# EAGLE library part ATMEGA640 (library X893)
ATmega640
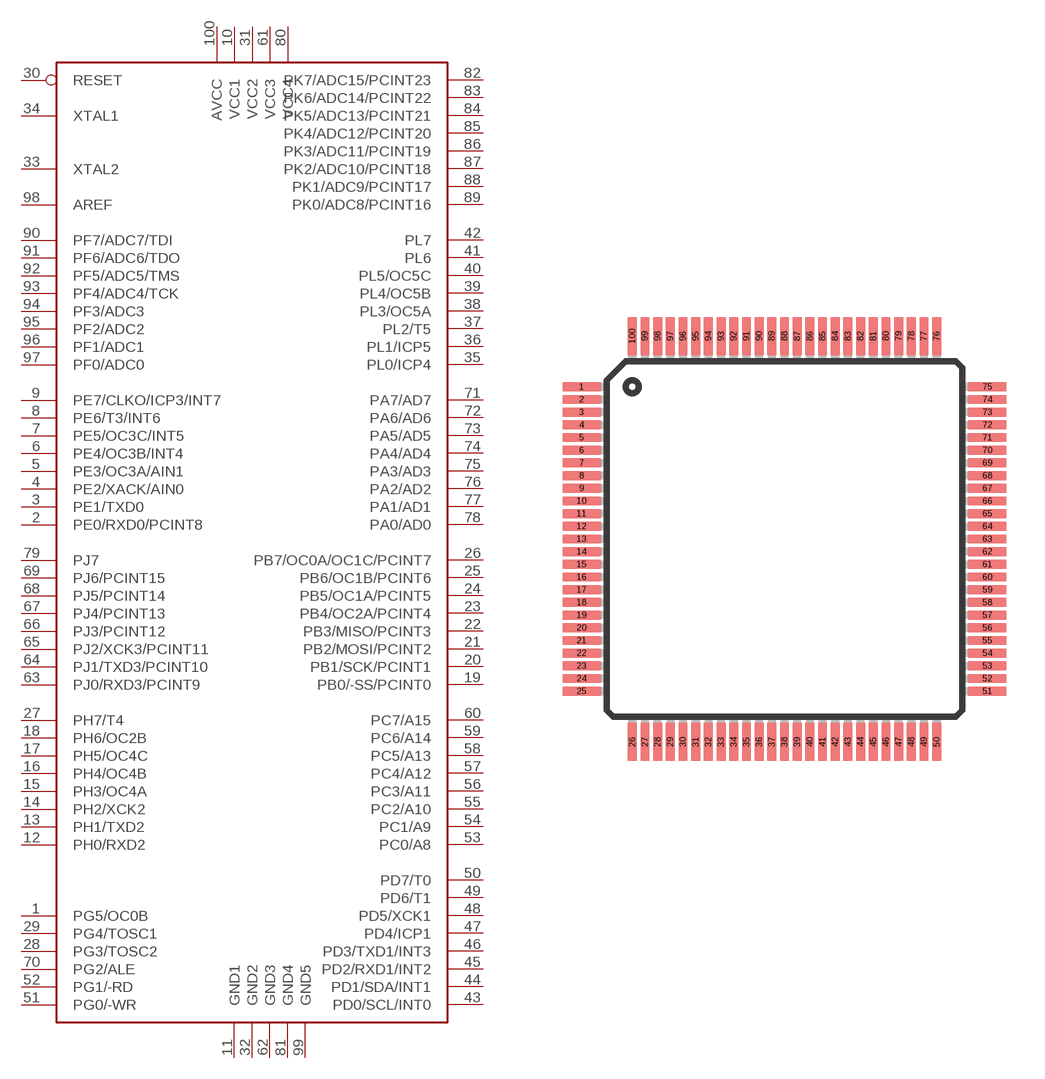
[diagram p3: symbol with the pads of TQFP100; footprint TQFP100]

Designator prefix -

## ATMEGA640  [TQFP100]
1  PG5/OC0B
2  PE0/RXD0/PCINT8
3  PE1/TXD0
4  PE2/XACK/AIN0
5  PE3/OC3A/AIN1
6  PE4/OC3B/INT4
7  PE5/OC3C/INT5
8  PE6/T3/INT6
9  PE7/CLKO/ICP3/INT7
10  VCC1  pwr
11  GND1  pwr
12  PH0/RXD2
13  PH1/TXD2
14  PH2/XCK2
15  PH3/OC4A
16  PH4/OC4B
17  PH5/OC4C
18  PH6/OC2B
19  PB0/-SS/PCINT0
20  PB1/SCK/PCINT1
21  PB2/MOSI/PCINT2
22  PB3/MISO/PCINT3
23  PB4/OC2A/PCINT4
24  PB5/OC1A/PCINT5
25  PB6/OC1B/PCINT6
26  PB7/OC0A/OC1C/PCINT7
27  PH7/T4
28  PG3/TOSC2
29  PG4/TOSC1
30  RESET  in
31  VCC2  pwr
32  GND2  pwr
33  XTAL2
34  XTAL1
35  PL0/ICP4
36  PL1/ICP5
37  PL2/T5
38  PL3/OC5A
39  PL4/OC5B
40  PL5/OC5C
41  PL6
42  PL7
43  PD0/SCL/INT0
44  PD1/SDA/INT1
45  PD2/RXD1/INT2
46  PD3/TXD1/INT3
47  PD4/ICP1
48  PD5/XCK1
49  PD6/T1
50  PD7/T0
51  PG0/-WR
52  PG1/-RD
53  PC0/A8
54  PC1/A9
55  PC2/A10
56  PC3/A11
57  PC4/A12
58  PC5/A13
59  PC6/A14
60  PC7/A15
61  VCC3  pwr
62  GND3  pwr
63  PJ0/RXD3/PCINT9
64  PJ1/TXD3/PCINT10
65  PJ2/XCK3/PCINT11
66  PJ3/PCINT12
67  PJ4/PCINT13
68  PJ5/PCINT14
69  PJ6/PCINT15
70  PG2/ALE
71  PA7/AD7
72  PA6/AD6
73  PA5/AD5
74  PA4/AD4
75  PA3/AD3
76  PA2/AD2
77  PA1/AD1
78  PA0/AD0
79  PJ7
80  VCC4  pwr
81  GND4  pwr
82  PK7/ADC15/PCINT23
83  PK6/ADC14/PCINT22
84  PK5/ADC13/PCINT21
85  PK4/ADC12/PCINT20
86  PK3/ADC11/PCINT19
87  PK2/ADC10/PCINT18
88  PK1/ADC9/PCINT17
89  PK0/ADC8/PCINT16
90  PF7/ADC7/TDI
91  PF6/ADC6/TDO
92  PF5/ADC5/TMS
93  PF4/ADC4/TCK
94  PF3/ADC3
95  PF2/ADC2
96  PF1/ADC1
97  PF0/ADC0
98  AREF  in
99  GND5  pwr
100  AVCC  pwr

## Footprint TQFP100 (pad centres in mm)
100-lead Thin Quad Flat Pack Package Outline
smd 1.5 x 0.35: 1 -8,6; 2 -8,5.5; 3 -8,5; 4 -8,4.5; 5 -8,4; 6 -8,3.5; 7 -8,3; 8 -8,2.5; 9 -8,2; 10 -8,1.5; 11 -8,1; 12 -8,0.5; 13 -8,0; 14 -8,-0.5; 15 -8,-1; 16 -8,-1.5; 17 -8,-2; 18 -8,-2.5; 19 -8,-3; 20 -8,-3.5; 21 -8,-4; 22 -8,-4.5; 23 -8,-5; 24 -8,-5.5; 25 -8,-6; 51 8,-6; 52 8,-5.5; 53 8,-5; 54 8,-4.5; 55 8,-4; 56 8,-3.5; 57 8,-3; 58 8,-2.5; 59 8,-2; 60 8,-1.5; 61 8,-1; 62 8,-0.5; 63 8,0; 64 8,0.5; 65 8,1; 66 8,1.5; 67 8,2; 68 8,2.5; 69 8,3; 70 8,3.5; 71 8,4; 72 8,4.5; 73 8,5; 74 8,5.5; 75 8,6
smd 0.35 x 1.5: 26 -6,-8; 27 -5.5,-8; 28 -5,-8; 29 -4.5,-8; 30 -4,-8; 31 -3.5,-8; 32 -3,-8; 33 -2.5,-8; 34 -2,-8; 35 -1.5,-8; 36 -1,-8; 37 -0.5,-8; 38 0,-8; 39 0.5,-8; 40 1,-8; 41 1.5,-8; 42 2,-8; 43 2.5,-8; 44 3,-8; 45 3.5,-8; 46 4,-8; 47 4.5,-8; 48 5,-8; 49 5.5,-8; 50 6,-8; 76 6,8; 77 5.5,8; 78 5,8; 79 4.5,8; 80 4,8; 81 3.5,8; 82 3,8; 83 2.5,8; 84 2,8; 85 1.5,8; 86 1,8; 87 0.5,8; 88 0,8; 89 -0.5,8; 90 -1,8; 91 -1.5,8; 92 -2,8; 93 -2.5,8; 94 -3,8; 95 -3.5,8; 96 -4,8; 97 -4.5,8; 98 -5,8; 99 -5.5,8; 100 -6,8